# Altium schematic symbol library SCH - DRIVER - LED - TI LM3410XMY.SchLib: 1 symbol
Pins are listed as number, name and electrical type; pins without a type are passive.

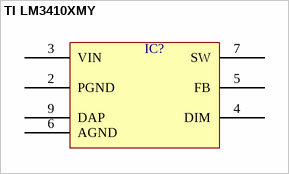
[diagram p0: symbol TI LM3410XMY]

## TI LM3410XMY
designator IC?  (value not drawn)
pins: 2 PGND, 3 VIN, 4 DIM, 5 FB, 6 AGND, 7 SW, 9 DAP